# EAGLE library part YAG444A4 (library opto)
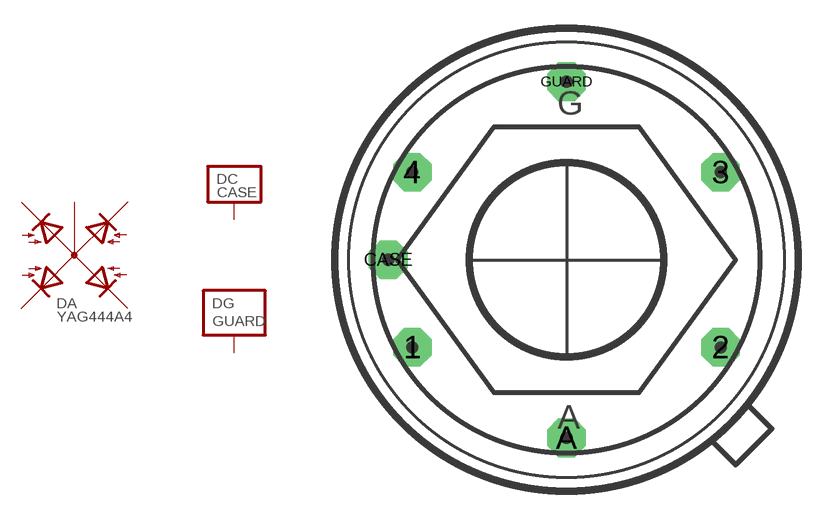
[diagram p4: symbol with the pads of DPQ04; footprint DPQ04]

Designator prefix D; gates A=DPQA1 C=VCASE G=VGUARD

## YAG444A4  [DPQ04]
1  A:C1  pas
2  A:C2  pas
3  A:C3  pas
4  A:C4  pas
A  A:A  pas
CASE  C:CASE
GUARD  G:GUARD

## Footprint DPQ04 (pad centres in mm)
drill 0.61 pad 2.032 octagon: 1 -8.096,-4.604; 2 8.096,-4.604; 3 8.096,4.604; 4 -8.096,4.604; A 0,-9.366; CASE -9.366,0; GUARD 0,9.366